# EAGLE library part _64PIN_Z8FXX22 (library Zilog-Z8-Encore-v1_1)
Z8 Encore, LQFP-64 Package
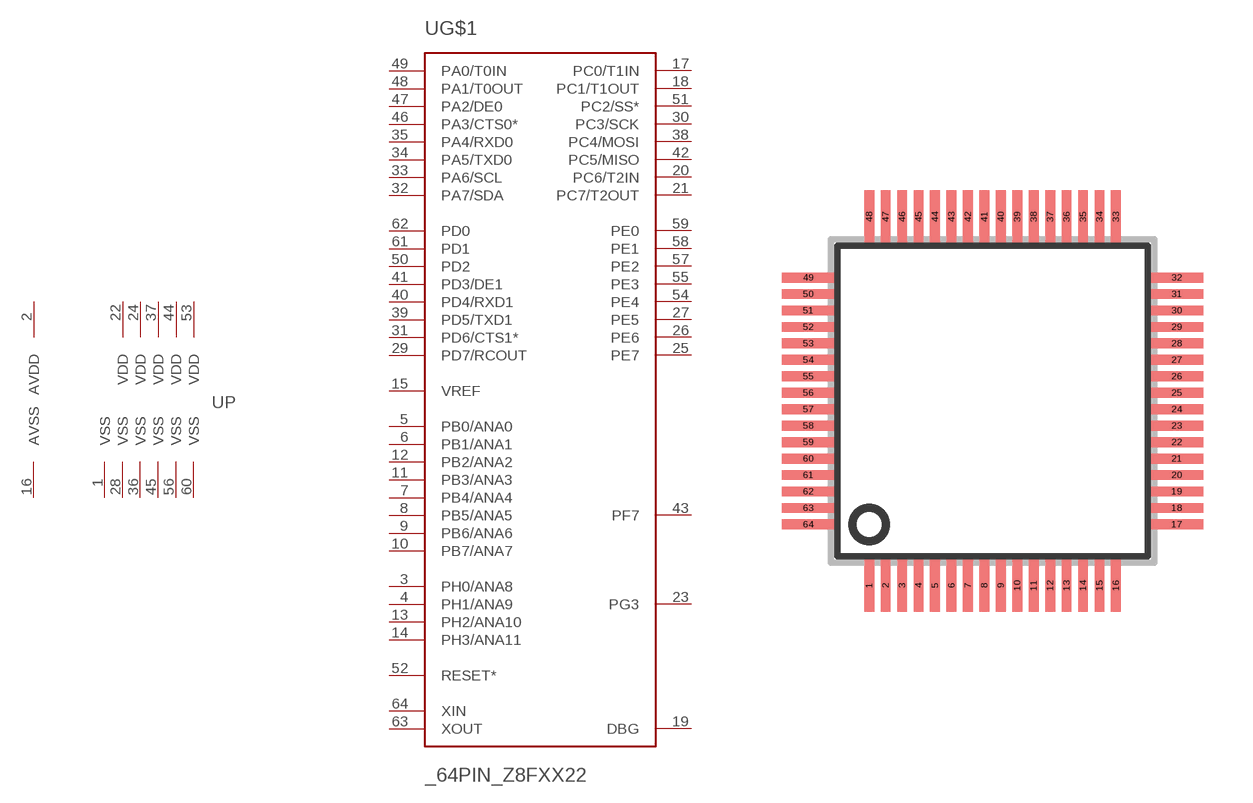
[diagram p2: symbol with the pads of SQFP-S-10X10-64; footprint SQFP-S-10X10-64]

Designator prefix U; gates G$1=Z8FXX22 P=PWR_64-PIN

## _64PIN_Z8FXX22AR  [SQFP-S-10X10-64]
1  P:VSS  pwr
2  P:AVDD  pwr
3  G$1:PH0/ANA8
4  G$1:PH1/ANA9
5  G$1:PB0/ANA0
6  G$1:PB1/ANA1
7  G$1:PB4/ANA4
8  G$1:PB5/ANA5
9  G$1:PB6/ANA6
10  G$1:PB7/ANA7
11  G$1:PB3/ANA3
12  G$1:PB2/ANA2
13  G$1:PH2/ANA10
14  G$1:PH3/ANA11
15  G$1:VREF  pas
16  P:AVSS  pwr
17  G$1:PC0/T1IN
18  G$1:PC1/T1OUT
19  G$1:DBG
20  G$1:PC6/T2IN
21  G$1:PC7/T2OUT
22  P:VDD  pwr
23  G$1:PG3
24  P:VDD  pwr
25  G$1:PE7
26  G$1:PE6
27  G$1:PE5
28  P:VSS  pwr
29  G$1:PD7/RCOUT
30  G$1:PC3/SCK
31  G$1:PD6/CTS1*
32  G$1:PA7/SDA
33  G$1:PA6/SCL
34  G$1:PA5/TXD0
35  G$1:PA4/RXD0
36  P:VSS  pwr
37  P:VDD  pwr
38  G$1:PC4/MOSI
39  G$1:PD5/TXD1
40  G$1:PD4/RXD1
41  G$1:PD3/DE1
42  G$1:PC5/MISO
43  G$1:PF7
44  P:VDD  pwr
45  P:VSS  pwr
46  G$1:PA3/CTS0*
47  G$1:PA2/DE0
48  G$1:PA1/T0OUT
49  G$1:PA0/T0IN
50  G$1:PD2
51  G$1:PC2/SS*
52  G$1:RESET*  in
53  P:VDD  pwr
54  G$1:PE4
55  G$1:PE3
56  P:VSS  pwr
57  G$1:PE2
58  G$1:PE1
59  G$1:PE0
60  P:VSS  pwr
61  G$1:PD1
62  G$1:PD0
63  G$1:XOUT  out
64  G$1:XIN  in

## Footprint SQFP-S-10X10-64 (pad centres in mm)
LQFP64 shrink quad flat pack, square
smd 0.3 x 1.6: 1 -3.75,-5.6; 2 -3.25,-5.6; 3 -2.75,-5.6; 4 -2.25,-5.6; 5 -1.75,-5.6; 6 -1.25,-5.6; 7 -0.75,-5.6; 8 -0.25,-5.6; 9 0.25,-5.6; 10 0.75,-5.6; 11 1.25,-5.6; 12 1.75,-5.6; 13 2.25,-5.6; 14 2.75,-5.6; 15 3.25,-5.6; 16 3.75,-5.6; 33 3.75,5.6; 34 3.25,5.6; 35 2.75,5.6; 36 2.25,5.6; 37 1.75,5.6; 38 1.25,5.6; 39 0.75,5.6; 40 0.25,5.6; 41 -0.25,5.6; 42 -0.75,5.6; 43 -1.25,5.6; 44 -1.75,5.6; 45 -2.25,5.6; 46 -2.75,5.6; 47 -3.25,5.6; 48 -3.75,5.6
smd 1.6 x 0.3: 17 5.6,-3.75; 18 5.6,-3.25; 19 5.6,-2.75; 20 5.6,-2.25; 21 5.6,-1.75; 22 5.6,-1.25; 23 5.6,-0.75; 24 5.6,-0.25; 25 5.6,0.25; 26 5.6,0.75; 27 5.6,1.25; 28 5.6,1.75; 29 5.6,2.25; 30 5.6,2.75; 31 5.6,3.25; 32 5.6,3.75; 49 -5.6,3.75; 50 -5.6,3.25; 51 -5.6,2.75; 52 -5.6,2.25; 53 -5.6,1.75; 54 -5.6,1.25; 55 -5.6,0.75; 56 -5.6,0.25; 57 -5.6,-0.25; 58 -5.6,-0.75; 59 -5.6,-1.25; 60 -5.6,-1.75; 61 -5.6,-2.25; 62 -5.6,-2.75; 63 -5.6,-3.25; 64 -5.6,-3.75